# Altium schematic symbol library Led_Library.SchLib: 2 symbols
Pins are listed as number, name and electrical type; pins without a type are passive.

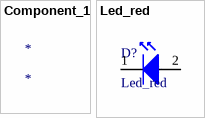
[diagram p0: symbols Component_1 to Led_red]

## Component_1
designator *

## Led_red
designator D?
footprint Led_smd_red
pins: 1, 2